# Altium footprint library USB protection.PcbLib: 1 footprints
Each footprint in its own frame and in the unit in brackets; x right, y up, seen from the top. Pads: shape width x height; smd on the part's side, far side on the other; paste and mask are expansions set on the pad; w line width, h text height; cw(c..) or ccw(c..) is an arc to the next point about the centre after c.
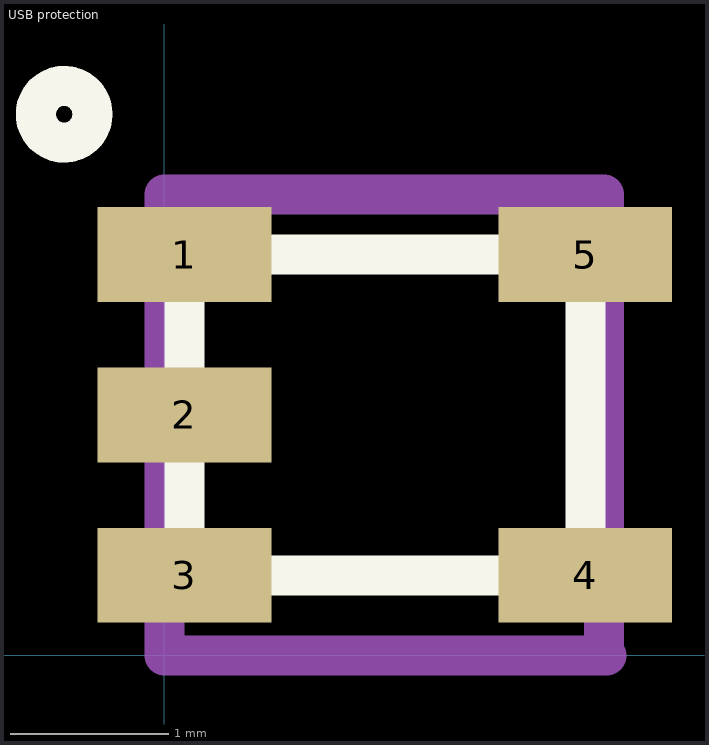
[diagram p0: the footprint, top view; thin cyan lines are the x and y axes]

## USB protection [mm]
pads (5):
  rect 1.1x0.6 smd: 1(0.127,2.54) 2(0.127,1.524) 3(0.127,0.508) 4(2.667,0.508) 5(2.667,2.54)
Top Overlay:
  circle w0.254: c-0.635,3.429 r0.18
  lines w0.254: 0.127,0.508 2.667,0.508 2.667,2.54 0.127,2.54 0.127,0.508
Mechanical 1:
  lines w0.254: 2.786,0 2.786,2.921 0,2.921 0,0 2.8,0
3D body: height 2.92, standoff 0, extent 0.127,0.508 2.667,2.54